# Altium schematic symbol library B2B-XH-AM_LF__SN_.SchLib: 1 symbol
Pins are listed as number, name and electrical type; pins without a type are passive.

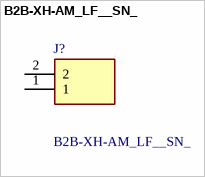
[diagram p0: symbol B2B-XH-AM_LF__SN_]

## B2B-XH-AM_LF__SN_
designator J?
CONN HEADER VERT 2POS 2.5MM; Manufacturer_Name: JST (JAPAN SOLDERLESS TERMINALS); Manufacturer_Part_Number: B2B-XH-AM(LF)(SN); Geometry.Height: 7mm; Mouser Part Number: 306-B2B-XH-AMLFSNP; Mouser Price/Stock: https://www.mouser.co.uk/ProductDetail/JST-Commercial/B2B-XH-AMLFSN?qs=cdbOS8ANM9BJgHgwB7WxQw%3D%3D; Datasheet Link: https://www.jst-mfg.com/product/pdf/eng/eXH.pdf
footprint B2BXHAMLFSN
pins: 1, 2